# Altium footprint library UC-526 - 2.PcbLib: 26 footprints (part 2 of 2)
Each footprint in its own frame and in the unit in brackets; x right, y up, seen from the top. Pads: shape width x height; smd on the part's side, far side on the other; paste and mask are expansions set on the pad; w line width, h text height; cw(c..) or ccw(c..) is an arc to the next point about the centre after c.
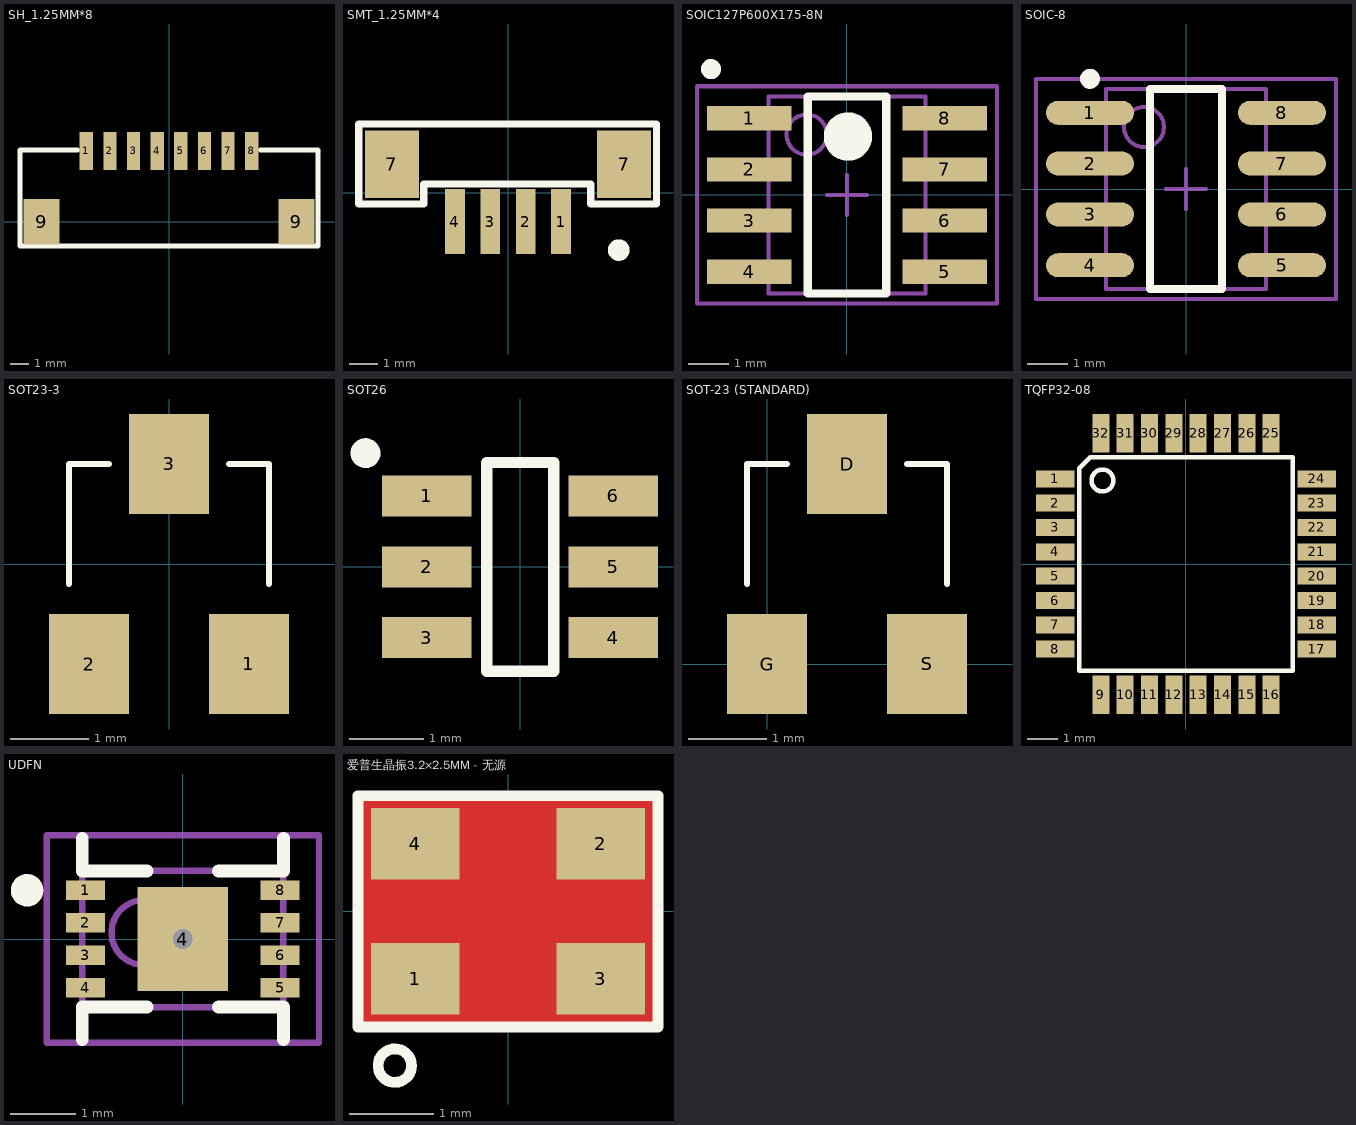
[diagram p1: the footprints below, top view; thin cyan lines are the x and y axes]

## SH_1.25MM*8 [mm]
pads (10):
  rect 0.7x2 smd: 1(-4.375,3.75) 2(-3.125,3.75) 3(-1.875,3.75) 4(-0.625,3.75) 5(0.625,3.75) 6(1.875,3.75) 7(3.125,3.75) 8(4.375,3.75)
  rect 1.9x2.4 smd: 9(-6.731,0) 9(6.731,0)
Top Overlay:
  lines w0.254: -4.826,3.81 -7.874,3.81 -7.874,-1.27 7.874,-1.27 7.874,3.81 4.826,3.81

## SMT_1.25MM*4 [mm]
pads (6):
  rect 0.7x2.3 smd: 1(1.875,-1.025) 2(0.625,-1.025) 3(-0.625,-1.025) 4(-1.875,-1.025)
  rect 1.9x2.4 smd: 7(-4.1,1) 7(4.1,1)
Top Overlay:
  circle w0.508: c3.912,-2.032 r0.127
  lines w0.254: -5.275,-0.4 -5.275,2.425 5.25,2.425 5.25,-0.4 2.925,-0.4 2.925,0.3 -2.975,0.3 -2.975,-0.4 -5.275,-0.4

## SOIC127P600X175-8N [mm]
pads (8):
  rect 2.1x0.6 smd: 1(-2.425,1.905) 2(-2.425,0.635) 3(-2.425,-0.635) 4(-2.425,-1.905) 5(2.425,-1.905) 6(2.425,-0.635) 7(2.425,0.635) 8(2.425,1.905)
Top Overlay:
  circle w0.25: c-3.378,3.126 r0.125
  circle w0.6: c0.025,1.45 r0.3
  lines w0.2: -0.975,-2.45 -0.975,2.45 0.975,2.45 0.975,-2.45 -0.975,-2.45
Mechanical 13:
  circle w0.1: c-1,1.5 r0.5
  lines w0.1: -1.95,-2.45 -1.95,2.45 1.95,2.45 1.95,-2.45 -1.95,-2.45
Mechanical 15:
  lines w0.1: -0.5,0 0.5,0 ; 0,-0.5 0,0.5 ; -3.725,-2.7 -3.725,2.7 3.725,2.7 3.725,-2.7 -3.725,-2.7
3D body: height 1.75, standoff 0.1, extent -1.95,-2.45 1.95,2.45

## SOIC-8 [mm]
pads (8):
  oval 2.2x0.6 smd: 1(-2.4,1.905) 2(-2.4,0.635) 3(-2.4,-0.635) 4(-2.4,-1.905) 5(2.4,-1.905) 6(2.4,-0.635) 7(2.4,0.635) 8(2.4,1.905)
Top Overlay:
  circle w0.25: c-2.4,2.755 r0.125
  lines w0.2: -0.9,-2.5 0.9,-2.5 0.9,2.5 -0.9,2.5 -0.9,-2.5
Mechanical 13:
  circle w0.1: c-1.05,1.55 r0.5
  lines w0.1: -2,-2.5 2,-2.5 2,2.5 -2,2.5 -2,-2.5
Mechanical 15:
  lines w0.1: -0.5,0 0.5,0 ; 0,-0.5 0,0.5 ; -3.75,-2.75 3.75,-2.75 3.75,2.75 -3.75,2.75 -3.75,-2.75
3D body: height 1.75, standoff 0.1, extent -2,-2.5 2,2.5

## SOT23-3 [mil]
pads (3):
  rect 40x50 smd: 1(40,-50) 2(-40,-50) 3(0,50)
Top Overlay:
  lines w3: -50,-10 -50,50 -30,50 ; 30,50 50,50 50,-10
3D body: height 41.65, standoff -1.65, extent -59,-52.21 59.11,46.21

## SOT26 [mm]
pads (6):
  rect 1.2x0.55 smd: 1(-1.25,0.95) 2(-1.25,0) 3(-1.25,-0.95) 4(1.25,-0.95) 5(1.25,0) 6(1.25,0.95)
Top Overlay:
  circle w0.2: c-2.075,1.525 r0.1
  lines w0.152: -0.45,-1.4 -0.45,1.4 0.45,1.4 0.45,-1.4 -0.45,-1.4

## SOT-23 (STANDARD) [mil]
pads (3):
  rect 40x50 smd: D(40,100) G(0,0) S(80,0)
Top Overlay:
  lines w3: -10,40 -10,100 10,100 ; 70,100 90,100 90,40
3D body: height 41.65, standoff -1.65, extent -19,-2.21 99.11,96.21

## TQFP32-08 [mil]
pads (32):
  rect 50x22 smd: 1(-169,110.24) 2(-169,78.74) 3(-169,47.25) 4(-169,15.75) 5(-169,-15.74) 6(-169,-47.24) 7(-169,-78.74) 8(-169,-110.24) 17(169.01,-110.23) 18(169,-78.73) 19(169,-47.24) 20(169,-15.74) 21(169,15.75) 22(169,47.25) 23(169,78.74) 24(169,110.24)
  rect 22x50 smd: 9(-110.24,-169) 10(-78.74,-169) 11(-47.24,-168.99) 12(-15.74,-169) 13(15.75,-169) 14(47.25,-169) 15(78.74,-169) 16(110.24,-169) 25(110.24,169) 26(78.74,169) 27(47.25,169) 28(15.75,169) 29(-15.75,169) 30(-47.24,169) 31(-78.73,169) 32(-110.23,169)
Top Overlay:
  circle w6: c-108,108 r14.14
  lines w6: -137.99,-137.99 137.99,-137.99 137.99,137.99 -124.01,138 -137.99,124.02 -137.99,-137.99

## UDFN [mm]
pads (9):
  rect 0.6x0.3 smd: 1(-1.5,0.75) 2(-1.5,0.25) 3(-1.5,-0.25) 4(-1.5,-0.75) 5(1.5,-0.75) 6(1.5,-0.25) 7(1.5,0.25) 8(1.5,0.75)
  rect 1.4x1.6 smd: 4(0,0)
via 0,0 diameter 0.61 hole 0.305
Top Overlay:
  circle w0.25: c-2.4,0.75 r0.125
  lines w0.2: -1.55,-1.55 -1.55,-1.05 -0.55,-1.05 ; -1.55,1.55 -1.55,1.05 -0.55,1.05 ; 0.55,-1.05 1.55,-1.05 1.55,-1.55 ; 0.55,1.05 1.55,1.05 1.55,1.55
Mechanical 13:
  circle w0.1: c-0.6,0.1 r0.5
  lines w0.1: -1.55,-1.05 1.55,-1.05 1.55,1.05 -1.55,1.05 -1.55,-1.05
Mechanical 15:
  lines w0.1: -0.5,0 0.5,0 ; 0,-0.5 0,0.5 ; -2.1,-1.6 2.1,-1.6 2.1,1.6 -2.1,1.6 -2.1,-1.6
3D body: height 0.6, standoff 0, extent -1.5,-1 1.52,1

## 爱普生晶振3.2×2.5MM - 无源 [mm]
pads (4):
  rect 1.05x0.85 smd: 1(-1.1,-0.8) 2(1.1,0.8) 3(1.1,-0.8) 4(-1.1,0.8)
Top Layer:
  pour cut-out: -1.778,1.372 -1.778,-1.372 1.778,-1.372 1.778,1.372
Top Overlay:
  circle w0.127: c-1.341,-1.829 r0.198
  lines w0.127: -1.778,-1.372 1.778,-1.372 1.778,1.372 -1.778,1.372 -1.778,-1.372